# Altium footprint library LM.PcbLib: 21 footprints (part 1 of 2)
Each footprint in its own frame and in the unit in brackets; x right, y up, seen from the top. Pads: shape width x height; smd on the part's side, far side on the other; paste and mask are expansions set on the pad; w line width, h text height; cw(c..) or ccw(c..) is an arc to the next point about the centre after c.
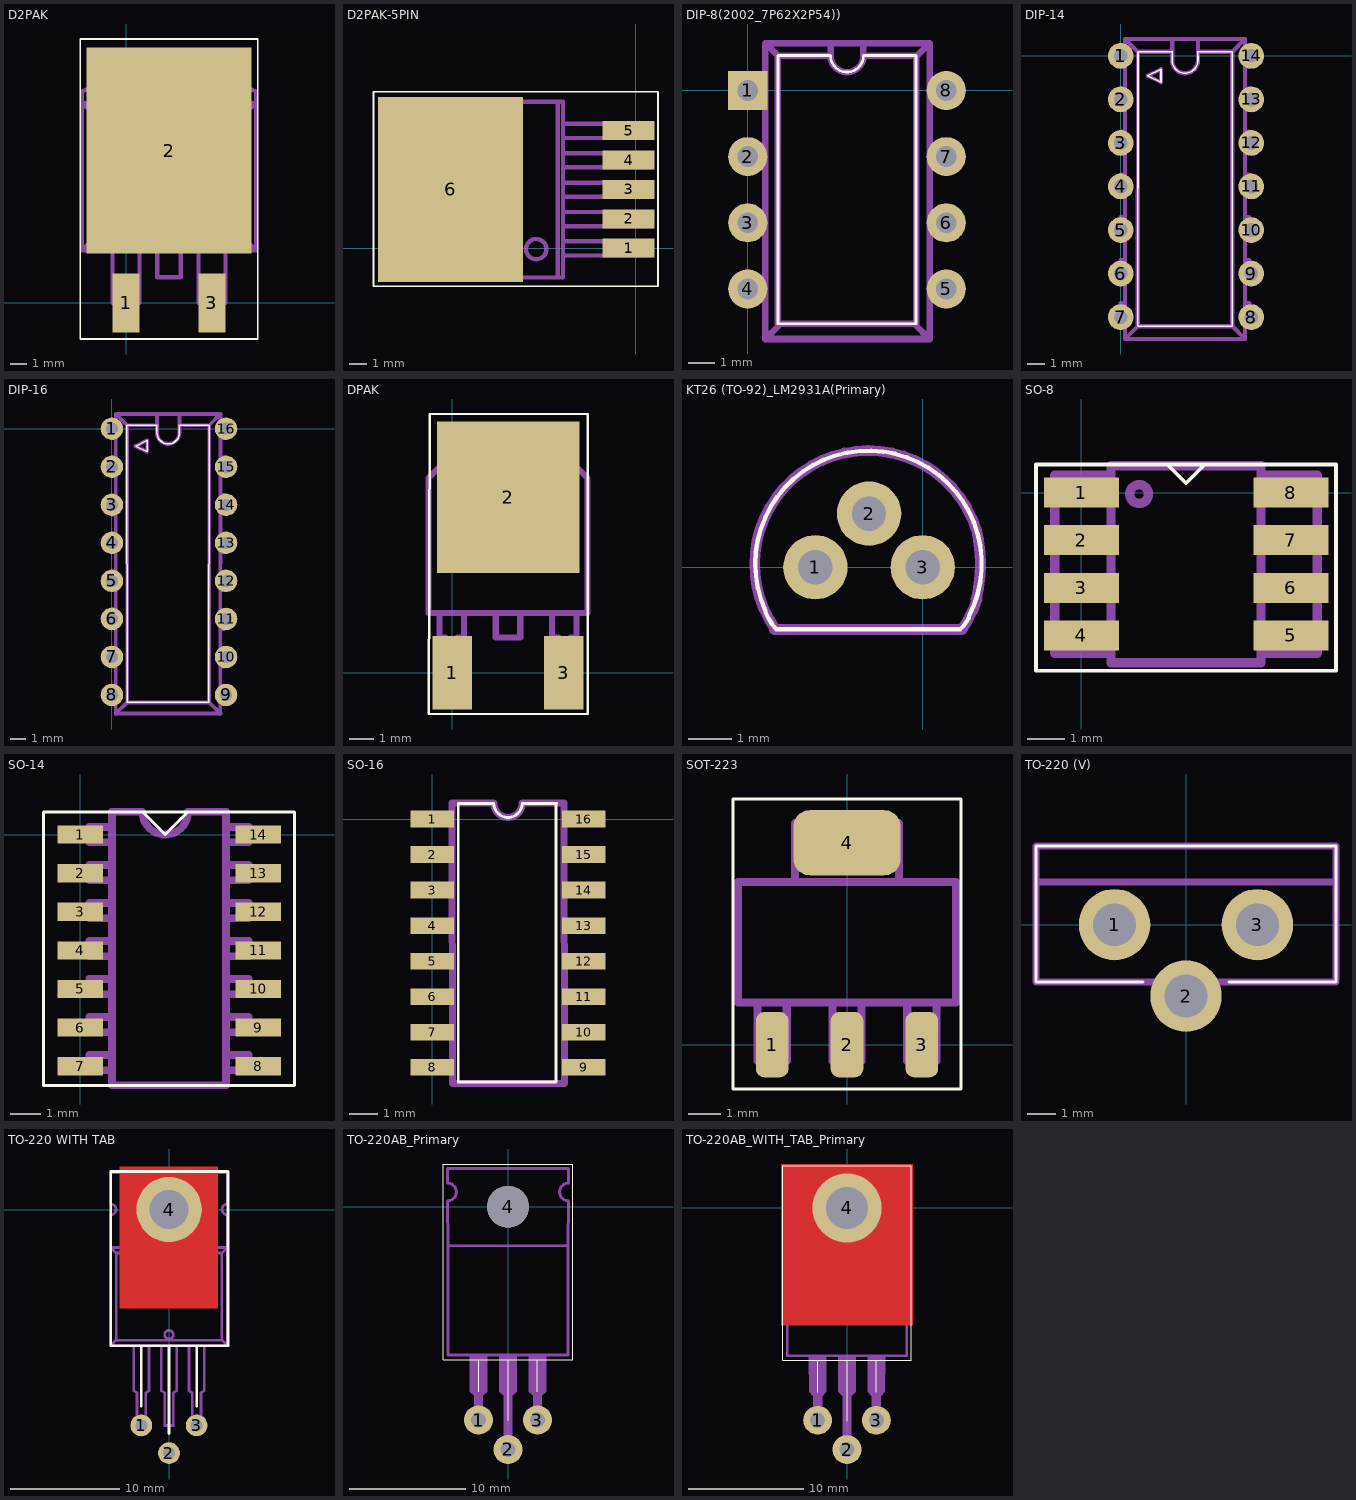
[diagram p0: the footprints below, top view; thin cyan lines are the x and y axes]

## D2PAK [mm]
pads (3):
  rect 1.6x3.5 smd: 1(0,0) 3(5.08,0)
  rect 9.75x12.2 smd: 2(2.54,9.017)
Top Overlay:
  lines w0.1: -2.71,-2.13 7.79,-2.13 7.79,15.62 -2.71,15.62 -2.71,-2.13
Mechanical 1:
  lines w0.25: -0.81,3.12 -0.81,0.02 0.79,0.02 0.79,3.12 ; -0.56,0.02 -0.56,-0.83 ; 0.54,0.02 0.54,-0.83 ; 1.84,3.12 1.84,1.52 2.54,1.52 3.24,1.52 3.24,3.12 ; 4.29,3.12 4.29,0.02 5.89,0.02 5.89,3.12 ; 4.54,0.02 4.54,-0.83 ; 5.64,0.02 5.64,-0.83 ; -2.61,3.12 7.69,3.12 ; -2.61,3.12 -2.61,11.82 ; -2.61,3.12 -2.11,3.62 ; -2.61,11.82 7.69,11.82 ; -2.61,11.82 -2.11,11.32 ; -2.61,11.82 -2.61,12.52 -1.01,13.22 6.09,13.22 7.69,12.52 7.69,11.82 ; -2.11,3.62 7.19,3.62 ; -2.11,3.62 -2.11,11.32 ; -2.11,11.32 7.19,11.32 ; -0.56,-0.83 -0.56,-1.48 0.54,-1.48 0.54,-0.83 ; -0.56,-0.83 0.54,-0.83 ; 4.54,-0.83 4.54,-1.48 5.64,-1.48 5.64,-0.83 ; 4.54,-0.83 5.64,-0.83 ; 7.19,3.62 7.19,11.32 ; 7.19,3.62 7.69,3.12 ; 7.19,11.32 7.69,11.82 ; 7.69,3.12 7.69,11.82

## D2PAK-5PIN [mm]
pads (6):
  rect 3x1.1 smd: 1(-0.4,0) 2(-0.4,1.7) 3(-0.4,3.4) 4(-0.4,5.1) 5(-0.4,6.8)
  rect 8.4x10.7 smd: 6(-10.7,3.4)
Top Overlay:
  lines w0.1: -15.15,-2.2 1.3,-2.2 1.3,9.05 -15.15,9.05 -15.15,-2.2
Mechanical 1:
  circle w0.25: c-5.743,-0.053 r0.589
  lines w0.25: -12.746,-1.694 -12.746,8.466 ; -12.277,-1.694 -12.277,8.466 ; -4.493,-1.694 -4.493,8.466 ; -4.196,-0.423 0.952,-0.423 0.952,0.394 -4.196,0.394 ; -4.196,1.277 0.952,1.277 0.952,2.094 -4.196,2.094 ; -4.196,2.977 0.952,2.977 0.952,3.794 -4.196,3.794 ; -4.196,4.677 0.952,4.677 0.952,5.494 -4.196,5.494 ; -4.196,6.377 0.952,6.377 0.952,7.194 -4.196,7.194 ; 0.623,-0.423 0.623,0.394 ; 0.623,1.277 0.623,2.094 ; 0.623,2.977 0.623,3.794 ; 0.623,4.677 0.623,5.494 ; 0.623,6.377 0.623,7.194 ; -14.196,-0.034 -14.196,6.805 -13.714,8.466 -4.196,8.466 -4.196,-1.694 -13.714,-1.694 -14.196,-0.034

## DIP-8(2002_7P62X2P54)) [mm]
pads (8):
  rect 1.5x1.5 hole 0.8: 1(0,0)
  round 1.5 hole 0.8: 2(0,-2.54) 3(0,-5.08) 4(0,-7.62) 5(7.62,-7.62) 6(7.62,-5.08) 7(7.62,-2.54) 8(7.62,0)
Top Overlay:
  lines w0.1: 1.16,-8.96 6.46,-8.96 6.46,1.34 4.445,1.34 cw(c3.81,1.34) 3.175,1.34 1.16,1.34 1.16,-8.96
Mechanical 1:
  lines w0.25: -0.07,-7.81 -0.42,-7.81 -0.42,-7.51 -0.07,-7.51 ; -0.07,-5.27 -0.42,-5.27 -0.42,-4.97 -0.07,-4.97 ; -0.07,-2.73 -0.42,-2.73 -0.42,-2.43 -0.07,-2.43 ; -0.07,-0.19 -0.42,-0.19 -0.42,0.11 -0.07,0.11 ; 0.68,-8.01 -0.07,-8.01 -0.07,-7.31 0.68,-7.31 ; 0.68,-5.47 -0.07,-5.47 -0.07,-4.77 0.68,-4.77 ; 0.68,-2.93 -0.07,-2.93 -0.07,-2.23 0.68,-2.23 ; 0.68,-0.39 -0.07,-0.39 -0.07,0.31 0.68,0.31 ; 1.18,1.31 0.68,1.81 ; 1.23,-8.99 0.68,-9.54 ; 3.18,1.31 3.18,1.81 ; 4.43,1.36 4.43,1.81 ; 6.43,-8.99 6.98,-9.54 ; 6.48,1.31 6.98,1.81 ; 6.98,-7.99 7.69,-8.01 7.69,-7.31 6.98,-7.29 ; 6.98,-5.49 7.69,-5.47 7.69,-4.77 6.98,-4.79 ; 6.98,-2.94 7.69,-2.93 7.69,-2.23 6.98,-2.24 ; 6.98,-0.39 7.69,-0.39 7.69,0.31 6.98,0.31 ; 7.69,-7.81 8.04,-7.81 8.04,-7.51 7.69,-7.51 ; 7.69,-5.27 8.04,-5.27 8.04,-4.97 7.69,-4.97 ; 7.69,-2.73 8.04,-2.73 8.04,-2.43 7.69,-2.43 ; 7.69,-0.19 8.04,-0.19 8.04,0.11 7.69,0.11 ; 0.68,-9.54 6.98,-9.54 ; 0.68,-9.54 0.68,1.41 0.68,1.81 ; 0.68,1.81 6.98,1.81 ; 6.98,-9.54 6.98,1.81 ; 1.16,-8.96 6.46,-8.96 6.46,1.34 4.445,1.34 cw(c3.81,1.34) 3.175,1.34 1.16,1.34 1.16,-8.96

## DIP-14 [mm]
pads (14):
  round 1.5 hole 0.8: 1(0,0) 2(0,-2.54) 3(0,-5.08) 4(0,-7.62) 5(0,-10.16) 6(0,-12.7) 7(0,-15.24) 8(7.62,-15.24) 9(7.62,-12.7) 10(7.62,-10.16) 11(7.62,-7.62) 12(7.62,-5.08) 13(7.62,-2.54) 14(7.62,0)
Top Overlay:
  lines w0.1: 1,-15.75 1.004,0.234 3.004,0.234 ; 1.004,-15.766 6.504,-15.766 ; 3,0.25 3.004,-0.266 ccw(c3.754,-0.266) 4.504,-0.266 4.5,0.25 ; 4.504,0.234 6.504,0.234 6.5,-15.75 ; 1.576,-1.161 2.352,-1.541 2.352,-0.781 1.576,-1.161
Mechanical 1:
  lines w0.25: -0.2,0 0,0 ; 0.004,-15.316 -0.219,-15.316 -0.219,-15.016 -0.219,-14.716 0.004,-14.716 ; 0.004,-12.816 -0.219,-12.816 -0.219,-12.516 -0.219,-12.216 0.004,-12.216 ; 0.004,-10.316 -0.219,-10.316 -0.219,-10.016 -0.219,-9.716 0.004,-9.716 ; 0.004,-7.816 -0.219,-7.816 -0.219,-7.516 -0.219,-7.216 0.004,-7.216 ; 0.004,-5.316 -0.219,-5.316 -0.219,-5.016 -0.219,-4.716 0.004,-4.716 ; 0.004,-2.816 -0.219,-2.816 -0.219,-2.516 -0.219,-2.216 0.004,-2.216 ; 0.004,-0.316 -0.219,-0.316 -0.219,-0.016 -0.219,0.284 0.004,0.284 ; 0.25,-16.5 0.254,0.984 ; 0.254,-15.616 0.004,-15.616 0.004,-14.416 0.254,-14.416 ; 0.254,-13.116 0.004,-13.116 0.004,-11.916 0.254,-11.916 ; 0.254,-10.616 0.004,-10.616 0.004,-9.416 0.254,-9.416 ; 0.254,-8.116 0.004,-8.116 0.004,-6.916 0.254,-6.916 ; 0.254,-5.616 0.004,-5.616 0.004,-4.416 0.254,-4.416 ; 0.254,-3.116 0.004,-3.116 0.004,-1.916 0.254,-1.916 ; 0.254,-0.616 0.004,-0.616 0.004,0.584 0.254,0.584 ; 1,-15.75 1.004,0.234 ; 3.004,0.234 1.004,0.234 ; 3.004,0.984 3.004,-0.266 ccw(c3.754,-0.266) 4.504,-0.266 4.504,0.984 ; 4.504,0.234 6.504,0.234 ; 6.5,-15.75 6.504,0.234 ; 7.25,-16.5 7.254,0.984 ; 7.254,-15.616 7.504,-15.616 7.504,-14.416 7.254,-14.416 ; 7.254,-13.116 7.504,-13.116 7.504,-11.916 7.254,-11.916 ; 7.254,-10.616 7.504,-10.616 7.504,-9.416 7.254,-9.416 ; 7.254,-8.116 7.504,-8.116 7.504,-6.916 7.254,-6.916 ; 7.254,-5.616 7.504,-5.616 7.504,-4.416 7.254,-4.416 ; 7.254,-3.116 7.504,-3.116 7.504,-1.916 7.254,-1.916 ; 7.254,-0.616 7.504,-0.616 7.504,0.584 7.254,0.584 ; 7.504,-15.316 7.727,-15.316 7.727,-15.016 7.727,-14.716 7.504,-14.716 ; 7.504,-12.816 7.727,-12.816 7.727,-12.516 7.727,-12.216 7.504,-12.216 ; 7.504,-10.316 7.727,-10.316 7.727,-10.016 7.727,-9.716 7.504,-9.716 ; 7.504,-7.816 7.727,-7.816 7.727,-7.516 7.727,-7.216 7.504,-7.216 ; 7.504,-5.316 7.727,-5.316 7.727,-5.016 7.727,-4.716 7.504,-4.716 ; 7.504,-2.816 7.727,-2.816 7.727,-2.516 7.727,-2.216 7.504,-2.216 ; 7.504,-0.316 7.727,-0.316 7.727,-0.016 7.727,0.284 7.504,0.284 ; 0.254,0.984 7.254,0.984 ; 0.254,0.984 1.004,0.234 ; 6.504,0.234 7.254,0.984 ; 0.254,-16.516 7.254,-16.516 6.504,-15.766 1.004,-15.766 0.254,-16.516 ; 1.576,-1.161 2.352,-1.541 2.352,-0.781 1.576,-1.161

## DIP-16 [mm]
pads (16):
  round 1.5 hole 0.8: 1(0,0) 2(0,-2.54) 3(0,-5.08) 4(0,-7.62) 5(0,-10.16) 6(0,-12.7) 7(0,-15.24) 8(0,-17.78) 9(7.62,-17.78) 10(7.62,-15.24) 11(7.62,-12.7) 12(7.62,-10.16) 13(7.62,-7.62) 14(7.62,-5.08) 15(7.62,-2.54) 16(7.62,0)
Top Overlay:
  lines w0.1: 1.004,-18.274 6.504,-18.274 ; 1.016,-18.288 1.004,0.234 3.004,0.234 ; 3,0.25 3.004,-0.266 ccw(c3.754,-0.266) 4.504,-0.266 4.5,0.25 ; 4.504,0.234 6.504,0.234 6.477,-18.288 ; 1.576,-1.161 2.352,-1.541 2.352,-0.781 1.576,-1.161
Mechanical 1:
  lines w0.25: -0.2,0 0,0 ; 0.004,-18.07 -0.219,-18.07 -0.219,-17.77 -0.219,-17.47 0.004,-17.47 ; 0.004,-15.57 -0.219,-15.57 -0.219,-15.27 -0.219,-14.97 0.004,-14.97 ; 0.004,-12.943 -0.219,-12.943 -0.219,-12.643 -0.219,-12.343 0.004,-12.343 ; 0.004,-10.443 -0.219,-10.443 -0.219,-10.143 -0.219,-9.843 0.004,-9.843 ; 0.004,-7.943 -0.219,-7.943 -0.219,-7.643 -0.219,-7.343 0.004,-7.343 ; 0.004,-5.443 -0.219,-5.443 -0.219,-5.143 -0.219,-4.843 0.004,-4.843 ; 0.004,-2.816 -0.219,-2.816 -0.219,-2.516 -0.219,-2.216 0.004,-2.216 ; 0.004,-0.316 -0.219,-0.316 -0.219,-0.016 -0.219,0.284 0.004,0.284 ; 0.254,-19.05 0.254,0.984 ; 0.254,-18.37 0.004,-18.37 0.004,-17.17 0.254,-17.17 ; 0.254,-15.87 0.004,-15.87 0.004,-14.67 0.254,-14.67 ; 0.254,-13.243 0.004,-13.243 0.004,-12.043 0.254,-12.043 ; 0.254,-10.743 0.004,-10.743 0.004,-9.543 0.254,-9.543 ; 0.254,-8.243 0.004,-8.243 0.004,-7.043 0.254,-7.043 ; 0.254,-5.743 0.004,-5.743 0.004,-4.543 0.254,-4.543 ; 0.254,-3.116 0.004,-3.116 0.004,-1.916 0.254,-1.916 ; 0.254,-0.616 0.004,-0.616 0.004,0.584 0.254,0.584 ; 1.016,-18.288 1.004,0.234 ; 3.004,0.234 1.004,0.234 ; 3.004,0.984 3.004,-0.266 ccw(c3.754,-0.266) 4.504,-0.266 4.504,0.984 ; 4.504,0.234 6.504,0.234 ; 6.477,-18.288 6.504,0.234 ; 7.239,-19.05 7.254,0.984 ; 7.254,-18.37 7.504,-18.37 7.504,-17.17 7.254,-17.17 ; 7.254,-15.87 7.504,-15.87 7.504,-14.67 7.254,-14.67 ; 7.254,-13.37 7.504,-13.37 7.504,-12.17 7.254,-12.17 ; 7.254,-10.743 7.504,-10.743 7.504,-9.543 7.254,-9.543 ; 7.254,-8.243 7.504,-8.243 7.504,-7.043 7.254,-7.043 ; 7.254,-5.616 7.504,-5.616 7.504,-4.416 7.254,-4.416 ; 7.254,-3.116 7.504,-3.116 7.504,-1.916 7.254,-1.916 ; 7.254,-0.616 7.504,-0.616 7.504,0.584 7.254,0.584 ; 7.504,-18.07 7.727,-18.07 7.727,-17.77 7.727,-17.47 7.504,-17.47 ; 7.504,-15.57 7.727,-15.57 7.727,-15.27 7.727,-14.97 7.504,-14.97 ; 7.504,-13.07 7.727,-13.07 7.727,-12.77 7.727,-12.47 7.504,-12.47 ; 7.504,-10.443 7.727,-10.443 7.727,-10.143 7.727,-9.843 7.504,-9.843 ; 7.504,-7.943 7.727,-7.943 7.727,-7.643 7.727,-7.343 7.504,-7.343 ; 7.504,-5.316 7.727,-5.316 7.727,-5.016 7.727,-4.716 7.504,-4.716 ; 7.504,-2.816 7.727,-2.816 7.727,-2.516 7.727,-2.216 7.504,-2.216 ; 7.504,-0.316 7.727,-0.316 7.727,-0.016 7.727,0.284 7.504,0.284 ; 0.254,0.984 7.254,0.984 ; 0.254,0.984 1.004,0.234 ; 6.504,0.234 7.254,0.984 ; 0.254,-19.024 7.254,-19.024 6.504,-18.274 1.004,-18.274 0.254,-19.024 ; 1.576,-1.161 2.352,-1.541 2.352,-0.781 1.576,-1.161

## DPAK [mm]
pads (3):
  rect 1.6x3 smd: 1(0,0) 3(4.56,0)
  rect 5.8x6.2 smd: 2(2.29,7.17)
Top Overlay:
  lines w0.1: -0.96,-1.68 5.54,-1.68 5.54,10.57 -0.91,10.57 -0.96,-1.68
Mechanical 1:
  lines w0.1: -0.52,1.45 0.48,1.45 ; -0.27,-0.05 0.23,-0.05 ; 4.08,1.45 5.08,1.45 ; 4.33,-0.05 4.83,-0.05
  lines w0.25: -0.52,2.45 -0.52,1.45 -0.27,1.45 -0.27,-0.8 0.23,-0.8 0.23,1.45 0.48,1.45 0.48,2.45 ; -0.22,8.45 -0.22,8.95 0.03,9.2 1.53,9.2 1.53,8.95 3.03,8.95 3.03,9.2 4.53,9.2 4.78,8.95 4.78,8.45 ; 1.78,2.45 1.78,1.45 2.78,1.45 2.78,2.45 ; 4.08,2.45 4.08,1.45 4.33,1.45 4.33,-0.8 4.83,-0.8 4.83,1.45 5.08,1.45 5.08,2.45 ; -0.97,2.45 5.53,2.45 5.53,7.95 5.03,8.45 -0.47,8.45 -0.97,7.95 -0.97,2.45

## KT26 (TO-92)_LM2931A(Primary) [mm]
pads (3):
  round 1.5 hole 0.8: 1(-2.5,0) 2(-1.25,1.25) 3(0,0)
Top Overlay:
  lines w0.1: -3.664,-1.015 cw(c-1.264,0.079) 1.078,-1.135 ; -3.661,-1.052 ccw(c-2.306,-0.474) -3.416,-1.443 ; -3.401,-1.441 -0.068,-1.442 ; -0.066,-1.441 0.874,-1.441 ; 0.878,-1.442 ccw(c0.253,-0.781) 1.069,-1.183
Mechanical 1:
  lines w0.25: -3.811,-0.683 cw(c-1.092,0.076) -3.811,0.835 ; -3.785,-0.736 ccw(c-1.27,0.076) -3.437,-1.436 ; -3.785,0.888 cw(c-1.27,0.076) 1.243,0.893 ; -3.454,-1.448 0.914,-1.448 ; 0.912,-1.452 ccw(c-1.27,0.076) 1.263,-0.747 ; 1.244,-0.739 ccw(c-1.956,0.076) 1.244,0.892

## PCBComponent_1 [mm]

## SO-8 [mm]
pads (8):
  rect 2x0.8 smd: 1(0,0) 2(0,-1.27) 3(0,-2.54) 4(0,-3.81) 5(5.588,-3.81) 6(5.588,-2.54) 7(5.588,-1.27) 8(5.588,0)
Top Overlay:
  lines w0.1: 2.29,0.75 2.79,0.25 3.29,0.75 ; -1.21,-4.75 6.79,-4.75 6.79,0.75 -1.21,0.75 -1.21,-4.75
Mechanical 1:
  circle w0.25: c1.54,-0.04 r0.25
  lines w0.25: 0.79,-4.29 -0.71,-4.29 -0.71,0.46 0.79,0.46 ; 4.79,-4.29 6.29,-4.29 6.29,0.46 4.79,0.46 ; 0.79,-4.54 4.79,-4.54 4.79,0.71 0.79,0.71 0.79,-4.54

## SO-14 [mm]
pads (14):
  rect 1.5x0.6 smd: 1(0,0) 2(0,-1.27) 3(0,-2.54) 4(0,-3.81) 5(0,-5.08) 6(0,-6.35) 7(0,-7.62) 8(5.85,-7.62) 9(5.85,-6.35) 10(5.85,-5.08) 11(5.85,-3.81) 12(5.85,-2.54) 13(5.85,-1.27) 14(5.85,0)
Top Overlay:
  lines w0.1: 2.04,0.75 2.79,0 3.54,0.75 ; -1.21,-8.25 7.04,-8.25 7.04,0.75 -1.21,0.75 -1.21,-8.25
Mechanical 1:
  lines w0.25: 1.04,-7.75 0.29,-7.75 0.29,-7.25 1.04,-7.25 ; 1.04,-6.5 0.29,-6.5 0.29,-6 1.04,-6 ; 1.04,-5.25 0.29,-5.25 0.29,-4.75 1.04,-4.75 ; 1.04,-4 0.29,-4 0.29,-3.5 1.04,-3.5 ; 1.04,-2.75 0.29,-2.75 0.29,-2.25 1.04,-2.25 ; 1.04,-1.5 0.29,-1.5 0.29,-1 1.04,-1 ; 1.04,-0.25 0.29,-0.25 0.29,0.25 1.04,0.25 ; 4.79,-7.75 5.54,-7.75 5.54,-7.25 4.79,-7.25 ; 4.79,-6.5 5.54,-6.5 5.54,-6 4.79,-6 ; 4.79,-5.25 5.54,-5.25 5.54,-4.75 4.79,-4.75 ; 4.79,-4 5.54,-4 5.54,-3.5 4.79,-3.5 ; 4.79,-2.75 5.54,-2.75 5.54,-2.25 4.79,-2.25 ; 4.79,-1.5 5.54,-1.5 5.54,-1 4.79,-1 ; 4.79,-0.25 5.54,-0.25 5.54,0.25 4.79,0.25 ; 1.04,-8.25 4.79,-8.25 4.79,0.75 3.54,0.75 cw(c2.79,0.75) 2.04,0.75 1.04,0.75 1.04,-8.25

## SO-16 [mm]
pads (16):
  rect 1.55x0.6 smd: 1(0,0) 2(0,-1.27) 3(0,-2.54) 4(0,-3.81) 5(0,-5.08) 6(0,-6.35) 7(0,-7.62) 8(0,-8.87) 9(5.4,-8.87) 10(5.4,-7.62) 11(5.4,-6.35) 12(5.4,-5.08) 13(5.4,-3.81) 14(5.4,-2.54) 15(5.4,-1.27) 16(5.4,0)
Top Overlay:
  lines w0.1: 0.92,-9.39 0.92,0.56 ; 0.94,-9.39 4.42,-9.39 4.42,0.56 ; 0.94,0.56 2.14,0.56 ; 2.192,0.565 ccw(c2.7,0.565) 3.208,0.565 ; 3.24,0.56 4.44,0.56
Mechanical 1:
  lines w0.25: 2.192,0.565 0.7,0.565 0.72,-9.44 4.72,-9.44 4.7,0.565 3.208,0.565
  lines w0.254: 2.192,0.565 ccw(c2.7,0.565) 3.208,0.565

## SOT-223 [mm]
pads (4):
  rrect50% 1x2 smd: 1(-2.3,0) 2(0,0) 3(2.3,0)
  rrect50% 3.3x2 smd: 4(0,6.2)
Top Overlay:
  lines w0.1: -3.5,-1.36 3.5,-1.36 3.5,7.54 -3.5,7.54 -3.5,-1.36
Mechanical 1:
  lines w0.25: -2.75,1.3 -2.75,-0.5 -1.85,-0.5 -1.85,1.3 ; -1.6,5.05 -1.6,6.8 1.6,6.8 1.6,5.05 ; -0.45,1.3 -0.45,-0.5 0.45,-0.5 0.45,1.3 ; 1.85,1.3 1.85,-0.5 2.75,-0.5 2.75,1.3 ; -3.35,1.3 3.35,1.3 3.35,5 -3.35,5 -3.35,1.3

## TO-220 (V) [mm]
pads (3):
  round 2.5 hole 1.5: 1(-2.5,0) 2(0,-2.5) 3(2.5,0)
Top Overlay:
  lines w0.1: -1.5,-2 -5.25,-2 -5.25,2.75 5.25,2.75 5.25,-2 1.5,-2
Mechanical 1:
  lines w0.25: -5.25,1.5 5.25,1.5 ; -5.25,-2 5.25,-2 5.25,2.75 -5.25,2.75 -5.25,-2

## TO-220 WITH TAB [mm]
pads (4):
  round 2 hole 1.1: 1(-2.55,-19.82) 2(-0.01,-22.36) 3(2.53,-19.82)
  round 6 hole 3.6: 4(0,0)
Top Layer:
  region: -4.55,-9.07 4.45,-9.07 4.45,3.93 -4.55,3.93
Top Overlay:
  lines w0.25: -2.55,-18.07 -2.55,-12.494 ; -0.01,-20.57 -0.01,-12.494 ; 2.53,-18.07 2.53,-12.494 ; -5.35,-12.5 5.4,-12.5 5.4,3.5 -5.35,3.5 -5.35,-12.5
Top Solder:
  region: -4.8,-9.32 4.7,-9.32 4.7,4.18 -4.8,4.18
Mechanical 1:
  circle w0.25: c-0.01,0.006 r2
  circle w0.25: c-0.01,-11.488 r0.397
  lines w0.25: -3.25,-16.644 -2.95,-16.819 -2.95,-19.819 -2.55,-19.819 -2.15,-19.819 -2.15,-16.819 -1.85,-16.644 ; -3.25,-16.57 -3.25,-12.494 ; -1.85,-16.57 -1.85,-12.494 ; -0.71,-16.644 -0.41,-16.819 -0.41,-19.819 -0.01,-19.819 0.39,-19.819 0.39,-16.819 0.69,-16.644 ; -0.71,-16.57 -0.71,-12.494 ; 0.69,-16.57 0.69,-12.494 ; 1.83,-16.644 2.13,-16.819 2.13,-19.819 2.53,-19.819 2.93,-19.819 2.93,-16.819 3.23,-16.644 ; 1.83,-16.57 1.83,-12.494 ; 3.23,-16.57 3.23,-12.494 ; -5.36,-12.494 5.34,-12.494 ; -5.36,-12.494 -5.36,-3.494 ; -5.36,-12.494 -4.86,-11.994 ; -5.36,-3.494 5.34,-3.494 ; -5.36,-3.494 -5.36,-0.475 ccw(c-5.36,0.006) -5.36,0.487 -5.36,3.406 5.34,3.406 5.34,0.487 ccw(c5.34,0.006) 5.34,-0.475 5.34,-3.494 ; -5.36,-3.494 -4.86,-3.994 ; -4.86,-11.994 4.84,-11.994 ; -4.86,-11.994 -4.86,-3.994 ; -4.86,-3.994 4.84,-3.994 ; 4.84,-11.994 4.84,-3.994 ; 4.84,-11.994 5.34,-12.494 ; 4.84,-3.994 5.34,-3.494 ; 5.34,-12.494 5.34,-3.494
  text "3" at 2,-11.75 h0.94
  text "2" at -0.4,-10.8 h0.94
  text "1" at -2.95,-11.75 h0.94

## TO-220AB_Primary [mm]
pads (4):
  round 2.5 hole 1.3: 1(-2.54,-18.388) 2(0,-20.928) 3(2.54,-18.388)
  round 3.6 hole 3.6 unplated: 4(0,0)
Top Overlay:
  lines w0.1: -2.54,-15.965 -2.54,-13.18 ; 0,-18.465 0,-13.18 ; 2.54,-15.965 2.54,-13.18 ; -5.56,-13.18 5.56,-13.18 5.56,3.68 -5.56,3.68 -5.56,-13.18
Mechanical 1:
  circle w0.254: c0,0 r1.6
  region: 0.375,-16.308 -0.375,-16.308 -0.375,-21.178 0,-21.178 0.375,-21.178
  region: -0.75,-12.92 -0.75,-15.933 -0.375,-16.308 0.375,-16.308 0.75,-15.933 0.75,-12.92
  region: 2.915,-16.308 2.165,-16.308 2.165,-18.638 2.54,-18.638 2.915,-18.638
  region: -2.165,-16.308 -2.915,-16.308 -2.915,-18.638 -2.54,-18.638 -2.165,-18.638
  region: 1.8,-12.92 1.79,-15.933 2.165,-16.308 2.915,-16.308 3.29,-15.933 3.3,-12.92
  region: -3.3,-12.92 -3.29,-15.933 -2.915,-16.308 -2.165,-16.308 -1.79,-15.933 -1.8,-12.92 -2.55,-12.92
  lines w0.25: -5.207,0.508 -5.18,-3.37 ; -5.207,2.032 -5.207,3.302 ; 5.207,0.508 5.18,-3.37 ; -5.18,-3.37 5.18,-3.37 ; -5.18,-3.37 -5.18,-12.8 5.18,-12.8 5.18,-3.37
  lines w0.254: -5.207,0.508 ccw(c-5.207,1.27) -5.207,2.032 ; -5.207,3.302 5.207,3.302 5.207,2.032 ccw(c5.207,1.27) 5.207,0.508
  text "2" at -0.508,-12.573 h0.79
  text "3" at 2.159,-12.573 h0.79
  text "1" at -3.048,-12.573 h0.79

## TO-220AB_WITH_TAB_Primary [mm]
pads (4):
  round 2.5 hole 1.3: 1(-2.54,-18.388) 2(0,-20.928) 3(2.54,-18.388)
  round 6 hole 3.6: 4(0,0)
Top Layer:
  region: -5.715,-10.16 5.715,-10.16 5.715,3.81 -5.715,3.81
Top Overlay:
  lines w0.1: -2.54,-15.965 -2.54,-13.18 ; 0,-18.465 0,-13.18 ; 2.54,-15.965 2.54,-13.18 ; -5.56,-13.18 5.56,-13.18 5.56,3.68 -5.56,3.68 -5.56,-13.18
Top Solder:
  region: -5.08,-9.525 5.08,-9.525 5.08,3.175 -5.08,3.175
Mechanical 1:
  circle w0.254: c0,0 r1.6
  region: 0.375,-16.308 -0.375,-16.308 -0.375,-21.178 0,-21.178 0.375,-21.178
  region: -0.75,-12.92 -0.75,-15.933 -0.375,-16.308 0.375,-16.308 0.75,-15.933 0.75,-12.92
  region: 2.915,-16.308 2.165,-16.308 2.165,-18.638 2.54,-18.638 2.915,-18.638
  region: -2.165,-16.308 -2.915,-16.308 -2.915,-18.638 -2.54,-18.638 -2.165,-18.638
  region: 1.8,-12.92 1.79,-15.933 2.165,-16.308 2.915,-16.308 3.29,-15.933 3.3,-12.92
  region: -3.3,-12.92 -3.29,-15.933 -2.915,-16.308 -2.165,-16.308 -1.79,-15.933 -1.8,-12.92 -2.55,-12.92
  lines w0.25: -5.207,0.508 -5.18,-3.37 ; -5.207,2.032 -5.207,3.302 ; 5.207,0.508 5.18,-3.37 ; -5.18,-3.37 5.18,-3.37 ; -5.18,-3.37 -5.18,-12.8 5.18,-12.8 5.18,-3.37
  lines w0.254: -5.207,0.508 ccw(c-5.207,1.27) -5.207,2.032 ; -5.207,3.302 5.207,3.302 5.207,2.032 ccw(c5.207,1.27) 5.207,0.508
  text "2" at -0.508,-12.573 h0.79
  text "3" at 2.159,-12.573 h0.79
  text "1" at -3.048,-12.573 h0.79